# Altium schematic symbol library SCH - COMPARATOR - MICROCHIP MCP6541R.SCHLIB: 1 symbol
Pins are listed as number, name and electrical type; pins without a type are passive.

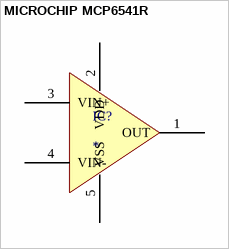
[diagram p0: symbol MICROCHIP MCP6541R]

## MICROCHIP MCP6541R
designator IC?
pins: 1 OUT, 2 VDD (power), 3 VIN+, 4 VIN-, 5 VSS (power)